# Altium footprint library Gravix-crystal oscillator.PcbLib: 2 footprints
Each footprint in its own frame and in the unit in brackets; x right, y up, seen from the top. Pads: shape width x height; smd on the part's side, far side on the other; paste and mask are expansions set on the pad; w line width, h text height; cw(c..) or ccw(c..) is an arc to the next point about the centre after c.
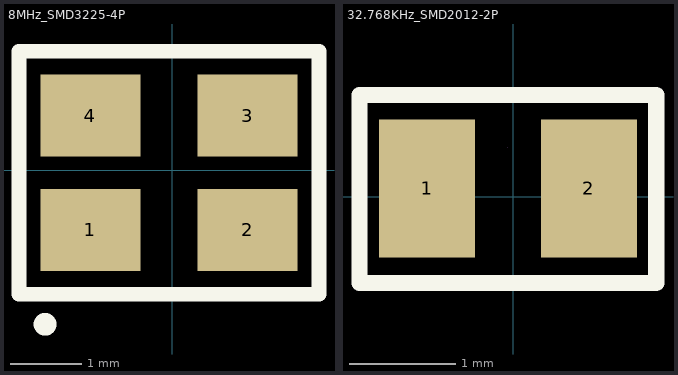
[diagram p0: the footprints below, top view; thin cyan lines are the x and y axes]

## 8MHz_SMD3225-4P [mm]
pads (4):
  rect 1.4x1.15 smd: 1(-1.143,-0.838) 2(1.057,-0.838) 3(1.057,0.762) 4(-1.143,0.762)
Top Overlay:
  circle w0.254: c-1.778,-2.159 r0.032
  lines w0.203: -2.143,-1.738 -2.143,1.662 2.057,1.662 2.057,-1.738 -2.143,-1.738
3D body "TSX-3225.STEP": height 0.6, standoff 0, extent -1.651,-1.27 1.549,1.23

## 32.768KHz_SMD2012-2P [mm]
pads (2):
  rect 0.9x1.3 smd paste+0 mask+0.051: 1(-0.812,0.076) 2(0.712,0.076)
Top Overlay:
  lines w0.152: -1.448,-0.803 -1.448,0.955 1.346,0.955 1.346,-0.813 -1.448,-0.813 -1.447,-0.559
Mechanical 15:
  lines w0.003: -0.051,0.463 -0.051,0.464